# Altium schematic symbol library Transistors.SchLib: 11 symbols
Pins are listed as number, name and electrical type; pins without a type are passive.

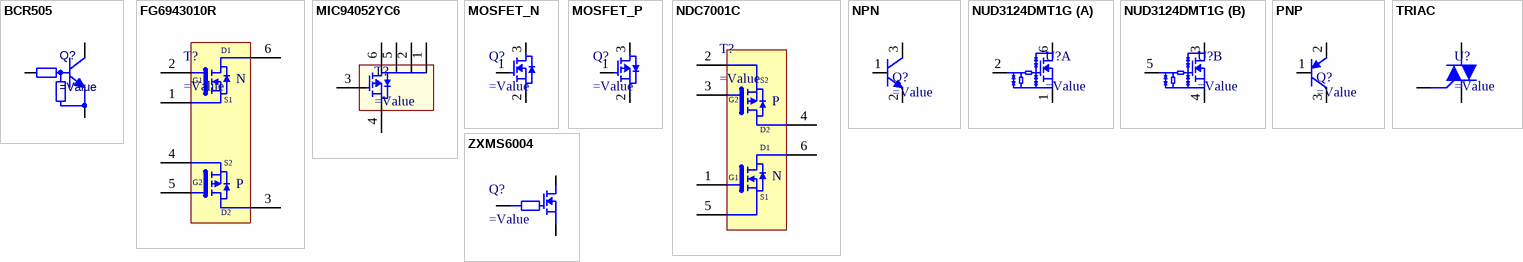
[diagram p0: symbols BCR505 to ZXMS6004]

## BCR505
designator Q?
TRANS PREBIAS NPN 300MW SOT23
pins: 1 B, 2 E, 3 C

## FG6943010R
designator T?
MOSFET N/P-CH 30V 100MA SSMINI6
pins: 1, 2, 3, 4, 5, 6
text: D1; G1; N; S1; S2; G2; P; D2

## MIC94052YC6
designator T?
MOSFET P-CH 6V 2A SC70-6
pins: 1 S, 2 S, 3 S, 4 G, 5 D, 6 D

## MOSFET_N
designator Q?
MOSFET_N
pins: 1, 2, 3

## MOSFET_P
designator Q?
MOSFET_P
pins: 1, 2, 3

## NDC7001C
designator T?
MOSFET N+P 60V 340MA SSOT6
pins: 1, 2, 3, 4, 5, 6
text: S2; G2; P; D2; D1; G1; N; S1

## NPN
designator Q?
NPN Silicon Planar General Purpose Transistor
pins: 1 B, 2 E, 3 C

## NUD3124DMT1G
designator U?
part A pins: 1, 2, 6
part B pins: 3, 4, 5

## PNP
designator Q?
PNP Silicon Planar General Purpose Transistor
pins: 1 B, 2 E, 3 C

## TRIAC
designator U?
pins: A1, A2, G

## ZXMS6004
designator Q?
MOSFET N-CH 60V 1.3A SOT23F
pins: 1, 2, 3